# Altium footprint library CSP_library.PcbLib: 23 footprints (part 2 of 2)
Each footprint in its own frame and in the unit in brackets; x right, y up, seen from the top. Pads: shape width x height; smd on the part's side, far side on the other; paste and mask are expansions set on the pad; w line width, h text height; cw(c..) or ccw(c..) is an arc to the next point about the centre after c.
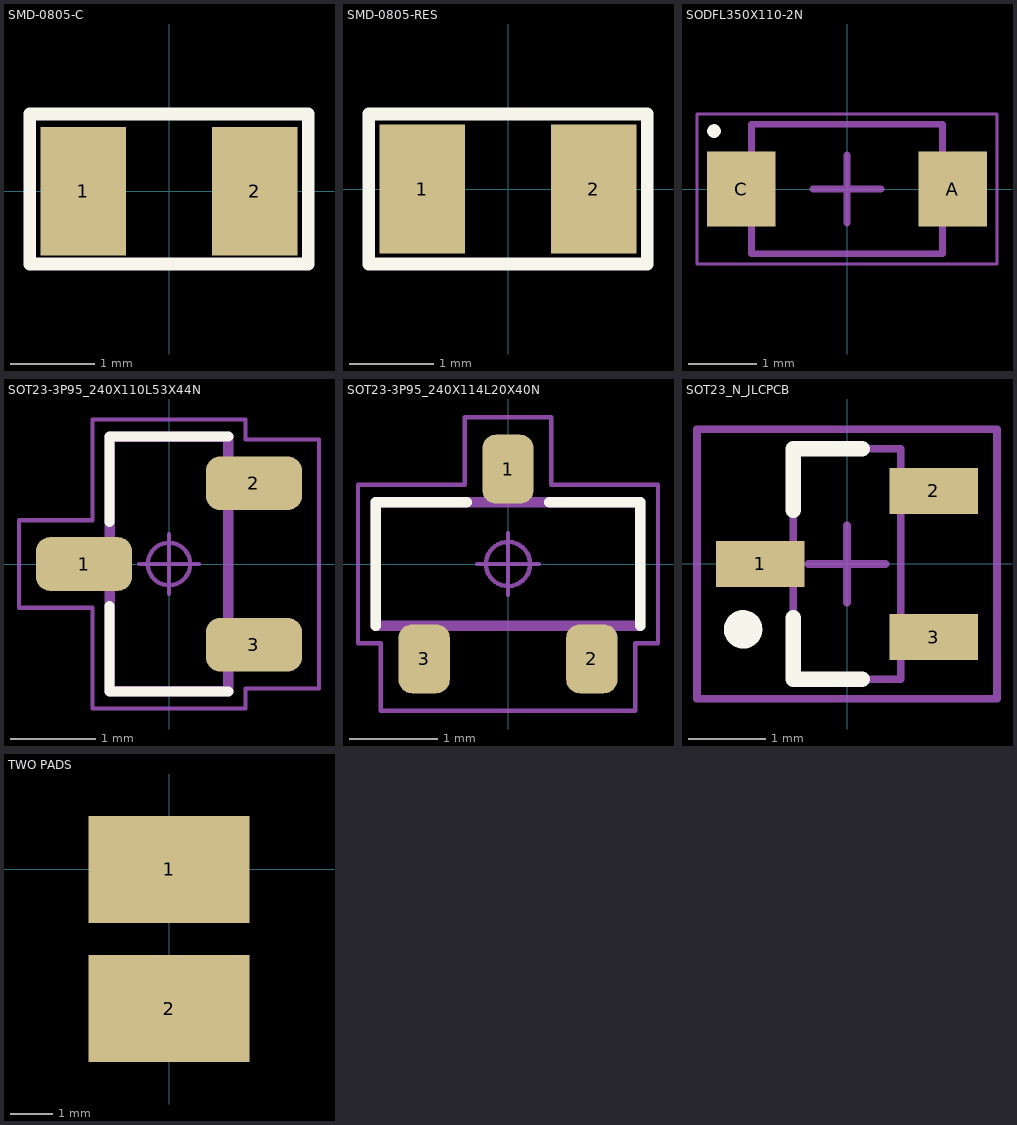
[diagram p1: the footprints below, top view; thin cyan lines are the x and y axes]

## SMD-0805-C [mil]
pads (2):
  rect 40x60 smd: 1(-40,0) 2(40,0)
Top Overlay:
  lines w6: -65,-34 -65,36 65,36 65,-34 -65,-34
3D body "08051A100FAT2A--3DModel-STEP-46669.STEP": height 37.01, standoff 0, extent -39.56,-24.6 39.57,24.61

## SMD-0805-RES [mil]
pads (2):
  rect 40x60 smd: 1(-40,0) 2(40,0)
Top Overlay:
  lines w6: -65,-35 65,-35 65,35 -65,35 -65,-35
3D body "SW3dPS-0805 SMD Resistor.STEP": height 30.79, standoff 0, extent -39.37,-23.6 39.37,25.61

## SODFL350X110-2N [mm] "SODFL, 2-Leads, Body 1.70x3.50mm, IPC Medium Density"
height 1.1
pads (2):
  rect 1x1.1 smd: A(1.55,0) C(-1.55,0)
Top Overlay:
  circle w0.1: c-1.95,0.85 r0.05
Mechanical 13:
  lines w0.1: -1.4,-0.95 -1.4,0.95 1.4,0.95 1.4,-0.95 -1.4,-0.95
Mechanical 15:
  lines w0.05: -2.2,-1.1 -2.2,1.1 2.2,1.1 2.2,-1.1 -2.2,-1.1
  lines w0.1: -0.5,0 0.5,0 ; 0,-0.5 0,0.5
3D body "SODFL350X110-2N.step": height 1.1, standoff 0, extent -1.75,-0.95 1.75,0.95

## SOT23-3P95_240X110L53X44N [mm] "Small Outline Transistor (SOT23), 0.95 mm pitch; 3 pin, 2.90 mm L X 1.30 mm W X 1.10 mm H body"
height 1.1
pads (3):
  rrect51% 1.13x0.63 smd: 1(-1,0) 2(1,0.95) 3(1,-0.95)
Top Overlay:
  lines w0.12: -0.7,-0.495 -0.7,-1.5 0.7,-1.5 ; -0.7,0.495 -0.7,1.5 0.7,1.5
Mechanical 11:
  lines w0.12: -0.7,-1.5 -0.7,1.5 0.7,1.5 0.7,-1.5 -0.7,-1.5
Mechanical 12:
  lines w0.025: -1.2,-0.22 -0.67,-0.22 -0.67,0.22 -1.2,0.22 -1.2,-0.22 ; -0.65,-1.45 -0.65,1.45 0.65,1.45 0.65,-1.45 -0.65,-1.45 ; 0.67,-1.17 0.67,-0.73 1.2,-0.73 1.2,-1.17 0.67,-1.17 ; 0.67,0.73 0.67,1.17 1.2,1.17 1.2,0.73 0.67,0.73
Mechanical 15:
  circle w0.05: c0,0 r0.25
  lines w0.05: -0.35,0 0.35,0 ; 0,-0.35 0,0.35 ; -1.765,-0.515 -1.765,0.515 -0.9,0.515 -0.9,1.7 0.9,1.7 0.9,1.465 1.765,1.465 1.765,-1.465 0.9,-1.465 0.9,-1.7 -0.9,-1.7 -0.9,-0.515 -1.765,-0.515
Mechanical 16:
  text ".Designator" at -0.127,2.286 h1.2
3D body "SOT23-3P95_240X110L53X44.STEP": height 1.1, standoff 0, extent -1.2,-1.45 1.2,1.45

## SOT23-3P95_240X114L20X40N [mm] "Small Outline Transistor (SOT23), 0.95 mm pitch; 3 pin, 2.90 mm L X 1.30 mm W X 1.14 mm H body"
height 1.14
pads (3):
  rrect52% 0.58x0.78 smd: 1(0,1.075) 2(0.95,-1.075) 3(-0.95,-1.075)
Top Overlay:
  lines w0.12: -1.5,-0.7 -1.5,0.7 -0.47,0.7 ; 0.47,0.7 1.5,0.7 1.5,-0.7
Mechanical 11:
  lines w0.12: -1.5,-0.7 -1.5,0.7 1.5,0.7 1.5,-0.7 -1.5,-0.7
Mechanical 12:
  lines w0.025: -1.45,-0.65 -1.45,0.65 1.45,0.65 1.45,-0.65 -1.45,-0.65 ; -1.15,-1.2 -0.75,-1.2 -0.75,-1 -1.15,-1 -1.15,-1.2 ; -0.2,1 0.2,1 0.2,1.2 -0.2,1.2 -0.2,1 ; 0.75,-1.2 1.15,-1.2 1.15,-1 0.75,-1 0.75,-1.2
Mechanical 15:
  circle w0.05: c0,0 r0.25
  lines w0.05: -0.35,0 0.35,0 ; 0,-0.35 0,0.35 ; -1.7,-0.9 -1.7,0.9 -0.49,0.9 -0.49,1.665 0.49,1.665 0.49,0.9 1.7,0.9 1.7,-0.9 1.44,-0.9 1.44,-1.665 -1.44,-1.665 -1.44,-0.9 -1.7,-0.9
3D body: height 0.25, standoff 0, extent 0,0 0.254,0.254
3D body "SOT23-3P95_240X114L20X40.STEP": height 1.14, standoff 0, extent -1.45,-1.2 1.45,1.2

## SOT23_N_JLCPCB [mm] "SOT23, 3-Leads, Body 2.9x1.3mm, Pitch 0.95mm, Lead Span 2.3mm - Reverse Pinning, IPC Medium Density"
height 1.1
pads (3):
  rect 1.15x0.6 smd: 1(-1.125,0) 2(1.125,0.95) 3(1.125,-0.95)
Top Overlay:
  circle w0.25: c-1.35,-0.85 r0.125
  lines w0.2: -0.7,-0.7 -0.7,-1.5 0.2,-1.5 ; -0.7,0.7 -0.7,1.5 0.2,1.5
Mechanical 13:
  lines w0.1: -0.7,-1.5 -0.7,1.5 0.7,1.5 0.7,-1.5 -0.7,-1.5
Mechanical 15:
  lines w0.1: -0.5,0 0.5,0 ; 0,-0.5 0,0.5 ; -1.95,-1.75 -1.95,1.75 1.95,1.75 1.95,-1.75 -1.95,-1.75
3D body: height 1.1, standoff 0, extent -0.7,-1.5 0.7,1.5

## TWO PADS [mil]
pads (2):
  rect 150x100 smd: 1(0,0) 2(0,-130)